# EAGLE library part HEADPHONES (library dslparts)
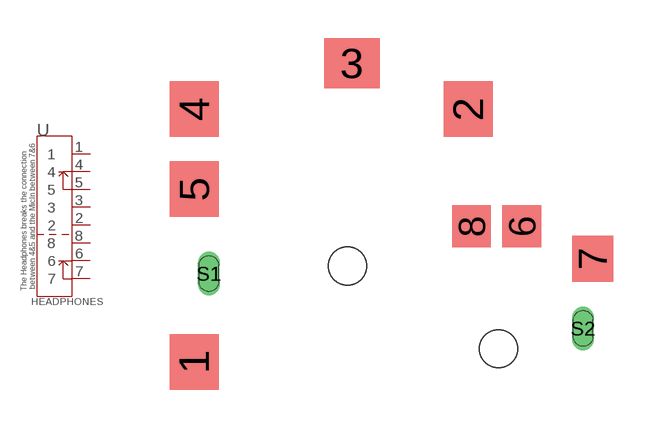
[diagram p5: symbol with the pads of HEADPHONES; footprint HEADPHONES]

Designator prefix -

## HEADPHONES  [HEADPHONES]
1  1
2  2
3  3
4  4
5  5
6  6
7  7
8  8

## Footprint HEADPHONES (pad centres in mm)
smd 1.93 x 2.184: 1 -2.54,-1.27; 2 8.255,8.687; 4 -2.54,8.687; 5 -2.54,5.537
smd 2.184 x 1.981: 3 3.683,10.49
smd 1.524 x 1.651: 6 10.363,4.064; 8 8.382,4.064
smd 1.626 x 1.803: 7 13.157,2.794
drill 0.35 long: S1 -1.956,2.21; S2 12.776,0.051
hole 1.5 at 3.5,2.5
hole 1.5 at 9.45,-0.75